# Altium schematic symbol library L78L05ACZ.SchLib: 1 symbol
Pins are listed as number, name and electrical type; pins without a type are passive.

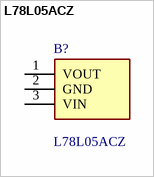
[diagram p0: symbol L78L05ACZ]

## L78L05ACZ
designator B?
Linear Voltage Regulators 5.0V 0.1A Positive; Manufacturer_Name: STMicroelectronics; Geometry.Height: 4.95mm; Mouser Part Number: 511-L78L05ACZ; Mouser Price/Stock: https://www.mouser.co.uk/ProductDetail/STMicroelectronics/L78L05ACZ?qs=C%2FEejvvdwQ7shwSHkbqaWA%3D%3D; Manufacturer_Part_Number: L78L05ACZ; Datasheet Link: https://4donline.ihs.com/images/VipMasterIC/IC/SGST/SGST-S-A0002857926/SGST-S-A0002857926-1.pdf?hkey=6D3A4C79FDBF58556ACFDE234799DDF0
footprint L78L05ACZ
pins: 1 VOUT, 2 GND, 3 VIN